# Altium footprint library SI5341B-B05071-GM.PcbLib: 3 footprints
Each footprint in its own frame and in the unit in brackets; x right, y up, seen from the top. Pads: shape width x height; smd on the part's side, far side on the other; paste and mask are expansions set on the pad; w line width, h text height; cw(c..) or ccw(c..) is an arc to the next point about the centre after c.
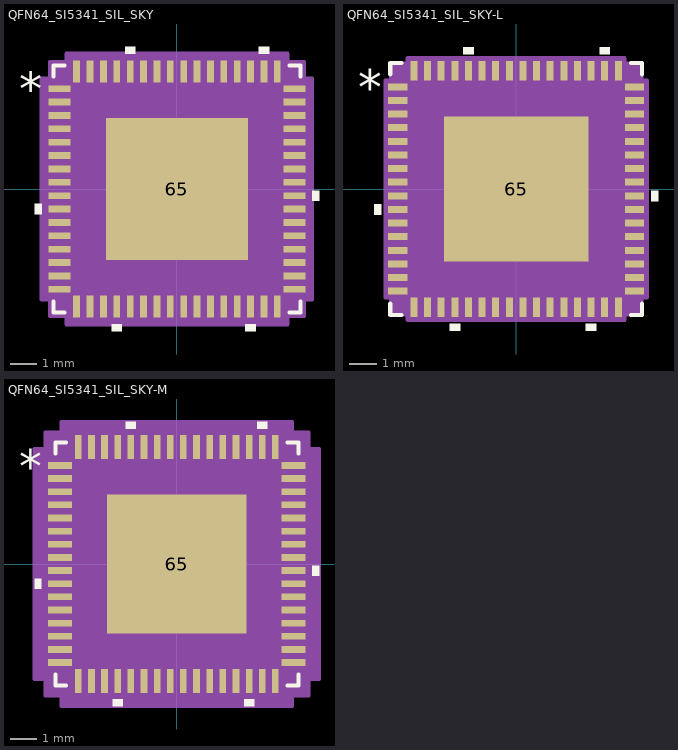
[diagram p0: the footprints below, top view; thin cyan lines are the x and y axes]

## QFN64_SI5341_SIL_SKY [mil]
pads (65):
  rect 32x10 smd paste+0 mask+0: 1(-173,147.68) 2(-173,127.98) 3(-173,108.3) 4(-173,88.61) 5(-173,68.92) 6(-173,49.23) 7(-173,29.54) 8(-173,9.85) 9(-173,-9.85) 10(-173,-29.54) 11(-173,-49.23) 12(-173,-68.92) 13(-173,-88.61) 14(-173,-108.3) 15(-173,-127.98) 16(-173,-147.68) 33(173,-147.68) 34(173,-127.98) 35(173,-108.3) 36(173,-88.61) 37(173,-68.92) 38(173,-49.23) 39(173,-29.54) 40(173,-9.85) 41(173,9.85) 42(173,29.54) 43(173,49.23) 44(173,68.92) 45(173,88.61) 46(173,108.3) 47(173,127.98) 48(173,147.68)
  rect 10x32 smd paste+0 mask+0: 17(-147.68,-173) 18(-127.98,-173) 19(-108.3,-173) 20(-88.61,-173) 21(-68.92,-173) 22(-49.23,-173) 23(-29.54,-173) 24(-9.85,-173) 25(9.85,-173) 26(29.54,-173) 27(49.23,-173) 28(68.92,-173) 29(88.61,-173) 30(108.3,-173) 31(127.98,-173) 32(147.68,-173) 49(147.68,173) 50(127.98,173) 51(108.3,173) 52(88.61,173) 53(68.92,173) 54(49.23,173) 55(29.54,173) 56(9.85,173) 57(-9.85,173) 58(-29.54,173) 59(-49.23,173) 60(-68.92,173) 61(-88.61,173) 62(-108.3,173) 63(-127.98,173) 64(-147.68,173)
  rect 209x209 smd paste+0 mask+0: 65(0,0)
Top Overlay:
  region: -199,-22.04 -209,-22.04 -209,-37.03 -199,-37.03
  region: -81.11,-199 -96.11,-199 -96.11,-209 -81.11,-209
  region: 115.8,-199 100.8,-199 100.8,-209 115.8,-209
  region: 199,-2.35 209,-2.35 209,-17.34 199,-17.34
  region: 135.49,199 120.48,199 120.48,209 135.49,209
  region: -61.41,199 -76.42,199 -76.42,209 -61.41,209
  lines w6: -182,-165.78 -182,-182 -165.78,-182 ; -182,165.78 -182,182 -165.78,182 ; 165.78,-182 182,-182 182,-165.78 ; 165.78,182 182,182 182,165.78
  text "*" at -232.5,122.67 h50
Mechanical 13:
  drawing of 261 lines, arcs and shapes, not listed
  text "*" at -138.5,122.67 h50
Mechanical 15:
  region: -162.68,-187 -187,-187 -187,-162.68 -199,-162.68 -199,162.68 -187,162.68 -187,187 -162.68,187 -162.68,199 162.68,199 162.68,187 187,187 187,162.68 199,162.68 199,-162.68 187,-162.68 187,-187 162.68,-187 162.68,-199 -162.68,-199
  lines w6: -199,-162.68 -187,-162.68 -187,-187 -162.68,-187 -162.68,-199 162.68,-199 162.68,-187 187,-187 187,-162.68 199,-162.68 199,162.68 187,162.68 187,187 162.68,187 162.68,199 -162.68,199 -162.68,187 -187,187 -187,162.68 -199,162.68 -199,-162.68
3D body "QFN64_SI5341_SIL_SKY.step": height 35.12, standoff 0, extent -177.01,-177.01 177.01,177.01

## QFN64_SI5341_SIL_SKY-L [mil]
pads (65):
  rect 28x10 smd paste+0 mask+0: 1(-171,147.68) 2(-171,127.98) 3(-171,108.3) 4(-171,88.61) 5(-171,68.92) 6(-171,49.23) 7(-171,29.54) 8(-171,9.85) 9(-171,-9.85) 10(-171,-29.54) 11(-171,-49.23) 12(-171,-68.92) 13(-171,-88.61) 14(-171,-108.3) 15(-171,-127.98) 16(-171,-147.68) 33(171,-147.68) 34(171,-127.98) 35(171,-108.3) 36(171,-88.61) 37(171,-68.92) 38(171,-49.23) 39(171,-29.54) 40(171,-9.85) 41(171,9.85) 42(171,29.54) 43(171,49.23) 44(171,68.92) 45(171,88.61) 46(171,108.3) 47(171,127.98) 48(171,147.68)
  rect 10x28 smd paste+0 mask+0: 17(-147.68,-171) 18(-127.98,-171) 19(-108.3,-171) 20(-88.61,-171) 21(-68.92,-171) 22(-49.23,-171) 23(-29.54,-171) 24(-9.85,-171) 25(9.85,-171) 26(29.54,-171) 27(49.23,-171) 28(68.92,-171) 29(88.61,-171) 30(108.3,-171) 31(127.98,-171) 32(147.68,-171) 49(147.68,171) 50(127.98,171) 51(108.3,171) 52(88.61,171) 53(68.92,171) 54(49.23,171) 55(29.54,171) 56(9.85,171) 57(-9.85,171) 58(-29.54,171) 59(-49.23,171) 60(-68.92,171) 61(-88.61,171) 62(-108.3,171) 63(-127.98,171) 64(-147.68,171)
  rect 209x209 smd paste+0 mask+0: 65(0,0)
Top Overlay:
  region: -195,-22.04 -205,-22.04 -205,-37.03 -195,-37.03
  region: -81.11,-195 -96.11,-195 -96.11,-205 -81.11,-205
  region: 115.8,-195 100.8,-195 100.8,-205 115.8,-205
  region: 195,-2.35 205,-2.35 205,-17.34 195,-17.34
  region: 135.49,195 120.48,195 120.48,205 135.49,205
  region: -61.41,195 -76.42,195 -76.42,205 -61.41,205
  lines w6: -182,-165.78 -182,-182 -165.78,-182 ; -182,165.78 -182,182 -165.78,182 ; 165.78,-182 182,-182 182,-165.78 ; 165.78,182 182,182 182,165.78
  text "*" at -228.5,122.67 h50
Mechanical 13:
  drawing of 261 lines, arcs and shapes, not listed
  text "*" at -138.5,122.67 h50
Mechanical 15:
  region: -156.68,-181 -181,-181 -181,-156.68 -189,-156.68 -189,156.68 -181,156.68 -181,181 -156.68,181 -156.68,189 156.68,189 156.68,181 181,181 181,156.68 189,156.68 189,-156.68 181,-156.68 181,-181 156.68,-181 156.68,-189 -156.68,-189
  lines w6: -189,-156.68 -181,-156.68 -181,-181 -156.68,-181 -156.68,-189 156.68,-189 156.68,-181 181,-181 181,-156.68 189,-156.68 189,156.68 181,156.68 181,181 156.68,181 156.68,189 -156.68,189 -156.68,181 -181,181 -181,156.68 -189,156.68 -189,-156.68
3D body "QFN64_SI5341_SIL_SKY.step": height 35.12, standoff 0, extent -177.01,-177.01 177.01,177.01

## QFN64_SI5341_SIL_SKY-M [mil]
pads (65):
  rect 36x10 smd paste+0 mask+0: 1(-175,147.68) 2(-175,127.98) 3(-175,108.3) 4(-175,88.61) 5(-175,68.92) 6(-175,49.23) 7(-175,29.54) 8(-175,9.85) 9(-175,-9.85) 10(-175,-29.54) 11(-175,-49.23) 12(-175,-68.92) 13(-175,-88.61) 14(-175,-108.3) 15(-175,-127.98) 16(-175,-147.68) 33(175,-147.68) 34(175,-127.98) 35(175,-108.3) 36(175,-88.61) 37(175,-68.92) 38(175,-49.23) 39(175,-29.54) 40(175,-9.85) 41(175,9.85) 42(175,29.54) 43(175,49.23) 44(175,68.92) 45(175,88.61) 46(175,108.3) 47(175,127.98) 48(175,147.68)
  rect 10x36 smd paste+0 mask+0: 17(-147.68,-175) 18(-127.98,-175) 19(-108.3,-175) 20(-88.61,-175) 21(-68.92,-175) 22(-49.23,-175) 23(-29.54,-175) 24(-9.85,-175) 25(9.85,-175) 26(29.54,-175) 27(49.23,-175) 28(68.92,-175) 29(88.61,-175) 30(108.3,-175) 31(127.98,-175) 32(147.68,-175) 49(147.68,175) 50(127.98,175) 51(108.3,175) 52(88.61,175) 53(68.92,175) 54(49.23,175) 55(29.54,175) 56(9.85,175) 57(-9.85,175) 58(-29.54,175) 59(-49.23,175) 60(-68.92,175) 61(-88.61,175) 62(-108.3,175) 63(-127.98,175) 64(-147.68,175)
  rect 209x209 smd paste+0 mask+0: 65(0,0)
Top Overlay:
  region: -203,-22.04 -213,-22.04 -213,-37.03 -203,-37.03
  region: -81.11,-203 -96.11,-203 -96.11,-213 -81.11,-213
  region: 115.8,-203 100.8,-203 100.8,-213 115.8,-213
  region: 203,-2.35 213,-2.35 213,-17.34 203,-17.34
  region: 135.49,203 120.48,203 120.48,213 135.49,213
  region: -61.41,203 -76.42,203 -76.42,213 -61.41,213
  lines w6: -182,-165.78 -182,-182 -165.78,-182 ; -182,165.78 -182,182 -165.78,182 ; 165.78,-182 182,-182 182,-165.78 ; 165.78,182 182,182 182,165.78
  text "*" at -236.5,122.67 h50
Mechanical 13:
  drawing of 261 lines, arcs and shapes, not listed
  text "*" at -138.5,122.67 h50
Mechanical 15:
  region: -172.68,-197 -197,-197 -197,-172.68 -213,-172.68 -213,172.68 -197,172.68 -197,197 -172.68,197 -172.68,213 172.68,213 172.68,197 197,197 197,172.68 213,172.68 213,-172.68 197,-172.68 197,-197 172.68,-197 172.68,-213 -172.68,-213
  lines w6: -213,-172.68 -197,-172.68 -197,-197 -172.68,-197 -172.68,-213 172.68,-213 172.68,-197 197,-197 197,-172.68 213,-172.68 213,172.68 197,172.68 197,197 172.68,197 172.68,213 -172.68,213 -172.68,197 -197,197 -197,172.68 -213,172.68 -213,-172.68
3D body "QFN64_SI5341_SIL_SKY.step": height 35.12, standoff 0, extent -177.01,-177.01 177.01,177.01